# Altium footprint library PcbLib.PcbLib: 23 footprints (part 1 of 2)
Each footprint in its own frame and in the unit in brackets; x right, y up, seen from the top. Pads: shape width x height; smd on the part's side, far side on the other; paste and mask are expansions set on the pad; w line width, h text height; cw(c..) or ccw(c..) is an arc to the next point about the centre after c.
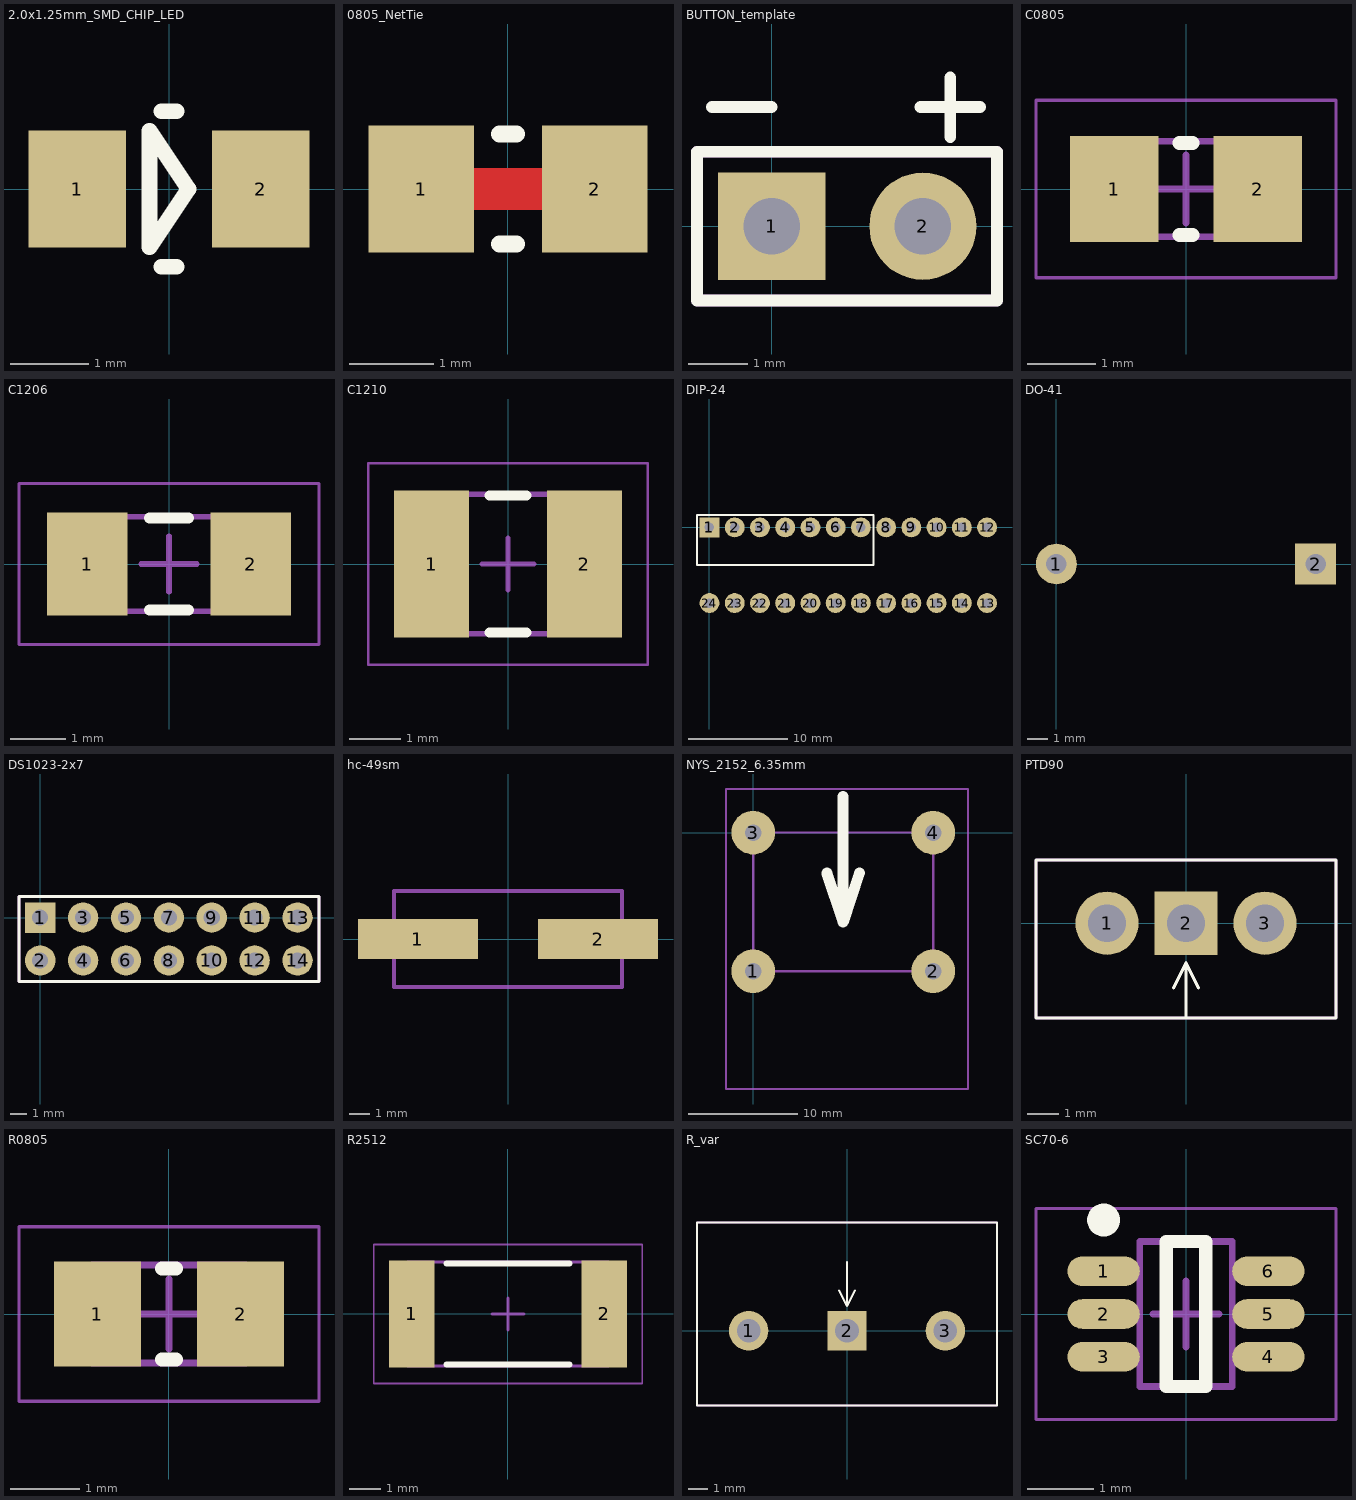
[diagram p0: the footprints below, top view; thin cyan lines are the x and y axes]

## 2.0x1.25mm_SMD_CHIP_LED [mm]
height 0.55
pads (2):
  rect 1.25x1.5 smd: 1(-1.175,0) 2(1.175,0)
Top Overlay:
  lines w0.2: -0.1,-1 0.1,-1 ; -0.1,1 0.1,1 ; -0.25,-0.75 0.25,0 -0.25,0.75 -0.25,-0.75
3D body "User Library-SML-21_2.sldprt": height 0.62, standoff 0, extent -1.1,-0.625 0.901,0.625

## 0805_NetTie [mm]
height 0.55
pads (2):
  rect 1.25x1.5 smd: 1(-1.025,0) 2(1.025,0)
Top Layer:
  lines w0.5: -1.025,0 1.025,0
Top Overlay:
  lines w0.2: -0.1,-0.65 0.1,-0.65 ; -0.1,0.65 0.1,0.65

## BUTTON_template [mm] "Button_in"
pads (2):
  rect 1.8x1.8 hole 0.95: 1(0,0)
  round 1.8 hole 0.95: 2(2.54,0)
Top Overlay:
  lines w0.2: -1,2 0,2 ; 1.245,1.25 -1.255,1.25 -1.255,-1.25 3.785,-1.25 3.785,1.25 1.285,1.25 ; 2.5,2 3.5,2 ; 3,1.5 3,2.5
Mechanical 1:
  lines w0.1: -0.5,0 0.5,0 ; 0,-0.5 0,0.5 ; 2.04,0 3.04,0 ; 2.54,-0.5 2.54,0.5
  lines w0.2: 1.245,1.25 -1.255,1.25 -1.255,-1.25 3.785,-1.25 3.785,1.25 1.285,1.25
3D body: height 0.2, standoff 0, extent 0,0 0,0

## C0805 [mm]
height 0.55
pads (2):
  rect 1.3x1.55 smd: 1(-1.05,0) 2(1.05,0)
Top Overlay:
  lines w0.2: -0.1,-0.675 0.1,-0.675 ; -0.1,0.675 0.1,0.675
Mechanical 13:
  lines w0.1: -1.1,-0.7 1.1,-0.7 1.1,0.7 -1.1,0.7 -1.1,-0.7
Mechanical 15:
  lines w0.05: -2.2,-1.3 2.2,-1.3 2.2,1.3 -2.2,1.3 -2.2,-1.3
  lines w0.1: -0.5,0 0.5,0 ; 0,-0.5 0,0.5
3D body "C0805.step": height 0.55, standoff 0, extent -1.1,-0.7 1.1,0.7

## C1206 [mm] "Chip Capacitor, 2-Leads, Body 3,10x1,60mm, IPC Low Density"
height 0.6
pads (2):
  rect 1.45x1.85 smd: 1(-1.475,0) 2(1.475,0)
Top Overlay:
  lines w0.2: -0.35,-0.825 0.35,-0.825 ; -0.35,0.825 0.35,0.825
Mechanical 13:
  lines w0.1: -1.6,-0.85 -1.6,0.85 1.6,0.85 1.6,-0.85 -1.6,-0.85
Mechanical 15:
  lines w0.05: -2.7,-1.45 -2.7,1.45 2.7,1.45 2.7,-1.45 -2.7,-1.45
  lines w0.1: -0.5,0 0.5,0 ; 0,-0.5 0,0.5
3D body "C1206.step": height 0.6, standoff 0, extent -1.6,-0.85 1.6,0.85

## C1210 [mm]
height 0.6
pads (2):
  rect 1.45x2.85 smd: 1(-1.475,0) 2(1.475,0)
Top Overlay:
  lines w0.2: -0.35,-1.325 0.35,-1.325 ; -0.35,1.325 0.35,1.325
Mechanical 13:
  lines w0.1: -1.6,-1.35 1.6,-1.35 1.6,1.35 -1.6,1.35 -1.6,-1.35
Mechanical 15:
  lines w0.05: -2.7,-1.95 2.7,-1.95 2.7,1.95 -2.7,1.95 -2.7,-1.95
  lines w0.1: -0.5,0 0.5,0 ; 0,-0.5 0,0.5
3D body "C1210.step": height 0.6, standoff 0, extent -1.6,-1.35 1.6,1.35

## DIP-24 [mm]
pads (24):
  rect 2x2 hole 0.95: 1(0,0)
  round 2 hole 0.95: 2(2.54,0) 3(5.08,0) 4(7.62,0) 5(10.16,0) 6(12.7,0) 7(15.24,0) 8(17.78,0) 9(20.32,0) 10(22.86,0) 11(25.4,0) 12(27.94,0) 13(27.94,-7.62) 14(25.4,-7.62) 15(22.86,-7.62) 16(20.32,-7.62) 17(17.78,-7.62) 18(15.24,-7.62) 19(12.7,-7.62) 20(10.16,-7.62) 21(7.62,-7.62) 22(5.08,-7.62) 23(2.54,-7.62) 24(0,-7.62)
Top Overlay:
  lines w0.2: -1.255,-1.29 -1.255,-3.79 1.245,-3.79 ; -1.255,-1.25 -1.255,1.25 1.245,1.25 ; 1.285,-3.79 3.785,-3.79 ; 1.285,1.25 3.785,1.25 ; 3.825,-3.79 6.325,-3.79 ; 3.825,1.25 6.325,1.25 ; 6.365,-3.79 16.51,-3.79 16.51,1.25 6.365,1.25
Mechanical 1:
  lines w0.1: -0.5,0 0.5,0 ; 0,-0.5 0,0.5 ; 2.04,0 3.04,0 ; 2.54,-0.5 2.54,0.5 ; 4.58,0 5.58,0 ; 5.08,-0.5 5.08,0.5 ; 7.12,0 8.12,0 ; 7.62,-0.5 7.62,0.5 ; 9.66,0 10.66,0 ; 10.16,-0.5 10.16,0.5 ; 12.2,0 13.2,0 ; 12.7,-0.5 12.7,0.5 ; 14.74,0 15.74,0 ; 15.24,-0.5 15.24,0.5 ; 17.28,0 18.28,0 ; 17.78,-0.5 17.78,0.5
3D body "User Library-DIP-24P-M03.SLDPRT": height 4.36, standoff -3, extent -0.871,-7.747 28.829,0.123
3D body: height 0.2, standoff 0, extent 0,0 0,0

## DO-41 [mm] "500mil pitch"
pads (2):
  round 2 hole 1: 1(0,0)
  rect 2x2 hole 1: 2(12.7,0)
3D body "DO-41 500 mil Pitch.SLDPRT": height 2.53, standoff -2, extent -0.35,-1.2 13.05,1.2

## DS1023-2x7 [mm] "DS1023-2x7"
pads (14):
  rect 1.8x1.8 hole 0.95: 1(0,0)
  round 1.8 hole 0.95: 2(0,-2.54) 3(2.54,0) 4(2.54,-2.54) 5(5.08,0) 6(5.08,-2.54) 7(7.62,0) 8(7.62,-2.54) 9(10.16,0) 10(10.16,-2.54) 11(12.7,0) 12(12.7,-2.54) 13(15.24,0) 14(15.24,-2.54)
Top Overlay:
  lines w0.2: -1.255,-1.29 -1.255,-3.79 1.245,-3.79 ; -1.255,-1.25 -1.255,1.25 1.245,1.25 ; 1.285,-3.79 3.785,-3.79 ; 1.285,1.25 3.785,1.25 ; 3.825,-3.79 6.325,-3.79 ; 3.825,1.25 6.325,1.25 ; 6.365,-3.79 16.51,-3.79 16.51,1.25 6.365,1.25
Mechanical 1:
  lines w0.1: -0.5,-2.54 0.5,-2.54 ; -0.5,0 0.5,0 ; 0,-3.04 0,-2.04 ; 0,-0.5 0,0.5 ; 2.04,-2.54 3.04,-2.54 ; 2.04,0 3.04,0 ; 2.54,-3.04 2.54,-2.04 ; 2.54,-0.5 2.54,0.5 ; 4.58,-2.54 5.58,-2.54 ; 4.58,0 5.58,0 ; 5.08,-3.04 5.08,-2.04 ; 5.08,-0.5 5.08,0.5 ; 7.12,-2.54 8.12,-2.54 ; 7.12,0 8.12,0 ; 7.62,-3.04 7.62,-2.04 ; 7.62,-0.5 7.62,0.5
  lines w0.2: -1.255,-1.29 -1.255,-3.79 1.245,-3.79 ; -1.255,-1.25 -1.255,1.25 1.245,1.25 ; 1.285,-3.79 3.785,-3.79 ; 1.285,1.25 3.785,1.25 ; 3.825,-3.79 6.325,-3.79 ; 3.825,1.25 6.325,1.25 ; 6.365,-3.79 16.51,-3.79 16.51,1.25 6.365,1.25
3D body: height 0.2, standoff 0, extent 0,0 0,0
3D body "534998-7.SLDPRT": height 6.22, standoff -3.68, extent -1.27,-3.779 16.51,1.25

## hc-49sm [mm]
pads (2):
  rect 6x2 smd: 1(-4.5,0) 2(4.5,0)
Mechanical 13:
  lines w0.2: -5.7,-2.4 5.7,-2.4 5.7,2.4 -5.7,2.4 -5.7,-2.4
3D body: height 6.22, standoff -3.68, extent 0,0 0,0
3D body "User Library-Crystal HC49_US-SM (1).SLDPRT": height 4.3, standoff 0, extent -6.4,-2.415 6.4,2.415

## NYS_2152_6.35mm [mm]
pads (4):
  round 4 hole 1.5: 1(0,-12.7) 2(16.5,-12.7) 3(0,0) 4(16.5,0)
Top Overlay:
  lines w1: 6.75,-3.688 8.25,-8.189 ; 8.25,3.311 8.25,-8.189 ; 9.75,-3.688 8.25,-8.189
Mechanical 13:
  lines w0.2: -2.5,-23.5 -2.5,4 19.7,4 19.7,-23.5 -2.5,-23.5 ; 0,-12.7 0,0 16.5,0 16.5,-12.7 0,-12.7
3D body "User Library-Audio Jack Neutrik Amphenol 6.35_SW3dPS-NMJ6HCD2_Imported5.sldprt": height 15.53, standoff -4.14, extent -0.85,-19.63 17.35,6.9
3D body "User Library-Audio Jack Neutrik Amphenol 6.35_SW3dPS-NMJ6HCD2_Imported4.sldprt": height 15.8, standoff 0.2, extent 0.453,1.735 16.047,11.265

## PTD90 [mm] "Rvar"
height 11.3
pads (3):
  round 2 hole 1.2: 1(-2.5,0) 3(2.5,0)
  rect 2x2 hole 1.2: 2(0,0)
Top Overlay:
  lines w0.1: -0.4,-2.05 0,-1.25 ; 0,-3 0,-1.25 ; 0.4,-2.05 0,-1.25 ; -4.75,-3 4.75,-3 4.75,2 -4.75,2 -4.75,-3
Mechanical 13:
  lines w0.1: -4.75,-3 -4.75,2 4.75,2 4.75,-3 -4.75,-3
3D body "User Library-Bournes Potentiometer PTD90 Series-1.SLDPRT": height 11.3, standoff -3.5, extent -4.75,-20 4.75,2.061

## R0805 [mm]
height 0.55
pads (2):
  rect 1.25x1.5 smd: 1(-1.025,0) 2(1.025,0)
Top Overlay:
  lines w0.2: -0.1,-0.65 0.1,-0.65 ; -0.1,0.65 0.1,0.65
Mechanical 13:
  lines w0.1: -1.1,-0.7 1.1,-0.7 1.1,0.7 -1.1,0.7 -1.1,-0.7
Mechanical 15:
  lines w0.05: -2.15,-1.25 2.15,-1.25 2.15,1.25 -2.15,1.25 -2.15,-1.25
  lines w0.1: -0.5,0 0.5,0 ; 0,-0.5 0,0.5
3D body "R0805.step": height 0.55, standoff 0, extent -1.1,-0.7 1.1,0.7

## R2512 [mm]
height 0.6
pads (2):
  rect 1.45x3.4 smd: 1(-3.05,0) 2(3.05,0)
Top Overlay:
  lines w0.2: -1.95,-1.6 1.95,-1.6 ; -1.95,1.6 1.95,1.6
Mechanical 13:
  lines w0.1: -3.18,-1.65 3.18,-1.65 3.18,1.65 -3.18,1.65 -3.18,-1.65
Mechanical 15:
  lines w0.05: -4.25,-2.2 4.25,-2.2 4.25,2.2 -4.25,2.2 -4.25,-2.2
  lines w0.1: -0.5,0 0.5,0 ; 0,-0.5 0,0.5
3D body "R2512.step": height 0.6, standoff 0, extent -3.18,-1.65 3.18,1.65

## R_var [mm] "200mil pitch"
pads (3):
  round 2 hole 1.2: 1(-5,0) 3(5,0)
  rect 2x2 hole 1.2: 2(0,0)
Top Overlay:
  lines w0.1: -0.4,2.05 0,1.25 ; 0,3.5 0,1.25 ; 0.4,2.05 0,1.25 ; -7.62,-3.8 7.62,-3.8 7.62,5.5 -7.62,5.5 -7.62,-3.8
Mechanical 13:
  lines w0.1: -7.62,-3.8 7.62,-3.8 7.62,5.5 -7.62,5.5 -7.62,-3.8

## SC70-6 [mm]
height 1.1
pads (6):
  oval 1.1x0.45 smd: 1(-1.25,0.65) 2(-1.25,0) 3(-1.25,-0.65) 4(1.25,-0.65) 5(1.25,0) 6(1.25,0.65)
Top Overlay:
  circle w0.25: c-1.25,1.425 r0.125
  lines w0.2: -0.3,-1.1 -0.3,1.1 0.3,1.1 0.3,-1.1 -0.3,-1.1
Mechanical 13:
  lines w0.1: -0.7,-1.1 -0.7,1.1 0.7,1.1 0.7,-1.1 -0.7,-1.1
Mechanical 15:
  lines w0.05: -2.275,-1.6 -2.275,1.6 2.275,1.6 2.275,-1.6 -2.275,-1.6
  lines w0.1: -0.5,0 0.5,0 ; 0,-0.5 0,0.5
3D body "SC70-6.step": height 1, standoff 0, extent -1.175,-1.1 1.175,1.1